# EAGLE library part M5STAMP-PICO (library ytani1)
M5Stamp Pico
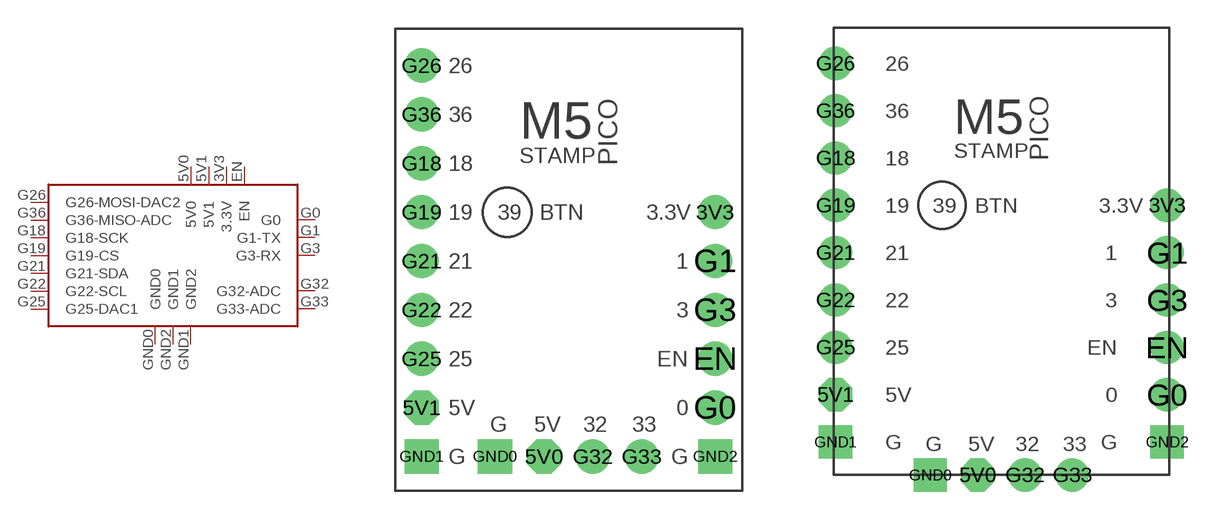
[diagram p9: symbol with the pads of M5STAMP-PICO; footprints M5STAMP-PICO, M5STAMP-PICO-SMD]

Designator prefix M5PICO

## M5STAMP-PICO (URL: https://shop.m5stack.com/collections/m5stack-new-arrival/products/m5stamp-pico-mate-with-pin-headers?variant=40279458840748)  [M5STAMP-PICO]
3V3  3.3V
5V0  5V0
5V1  5V1
EN  EN
G0  G0
G1  G1-TX
G3  G3-RX
G18  G18-SCK
G19  G19-CS
G21  G21-SDA
G22  G22-SCL
G25  G25-DAC1
G26  G26-MOSI-DAC2
G32  G32-ADC
G33  G33-ADC
G36  G36-MISO-ADC
GND0  GND0
GND1  GND2
GND2  GND1

## M5STAMP-PICO-SMD  [M5STAMP-PICO-SMD]
3V3  3.3V
5V0  5V0
5V1  5V1
EN  EN
G0  G0
G1  G1-TX
G3  G3-RX
G18  G18-SCK
G19  G19-CS
G21  G21-SDA
G22  G22-SCL
G25  G25-DAC1
G26  G26-MOSI-DAC2
G32  G32-ADC
G33  G33-ADC
G36  G36-MISO-ADC
GND0  GND0
GND1  GND1
GND2  GND2

## Footprint M5STAMP-PICO (pad centres in mm)
M5Stamp Pico
drill 1 pad 1.778: 3V3 7.62,2.54; EN 7.62,-5.08; G0 7.62,-7.62; G1 7.62,0; G3 7.62,-2.54; G18 -7.62,5.08; G19 -7.62,2.54; G21 -7.62,0; G22 -7.62,-2.54; G25 -7.62,-5.08; G26 -7.62,10.16; G32 1.27,-10.16; G33 3.81,-10.16; G36 -7.62,7.62
drill 1 pad 1.778 octagon: 5V0 -1.27,-10.16; 5V1 -7.62,-7.62
drill 1 pad 1.778 square: GND0 -3.81,-10.16; GND1 -7.62,-10.16; GND2 7.62,-10.16

## Footprint M5STAMP-PICO-SMD (pad centres in mm)
M5Stamp Pico
drill 1 pad 1.778: 3V3 8.89,2.54; EN 8.89,-5.08; G0 8.89,-7.62; G1 8.89,0; G3 8.89,-2.54; G18 -8.89,5.08; G19 -8.89,2.54; G21 -8.89,0; G22 -8.89,-2.54; G25 -8.89,-5.08; G26 -8.89,10.16; G32 1.27,-11.935; G33 3.81,-11.935; G36 -8.89,7.62
drill 1 pad 1.778 octagon: 5V0 -1.27,-11.935; 5V1 -8.89,-7.62
drill 1 pad 1.778 square: GND0 -3.81,-11.935; GND1 -8.89,-10.16; GND2 8.89,-10.16